# Altium footprint library CN HDR 6POS 3.96MM.PcbLib: 1 footprints
Each footprint in its own frame and in the unit in brackets; x right, y up, seen from the top. Pads: shape width x height; smd on the part's side, far side on the other; paste and mask are expansions set on the pad; w line width, h text height; cw(c..) or ccw(c..) is an arc to the next point about the centre after c.
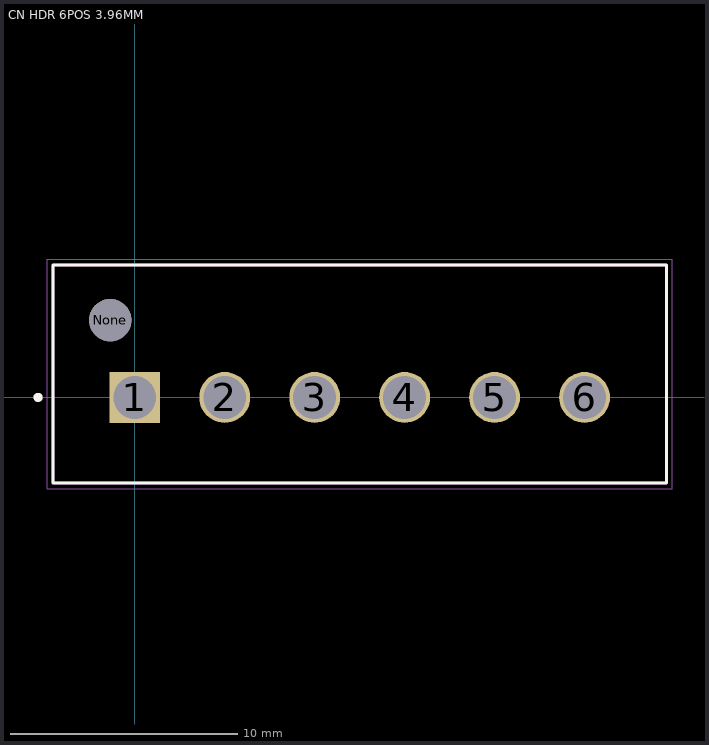
[diagram p0: the footprint, top view; thin cyan lines are the x and y axes]

## CN HDR 6POS 3.96MM [mm]
pads (7):
  rect 2.24x2.24 hole 1.89: 1(0,0)
  round 2.24 hole 1.89: 2(3.96,0) 3(7.92,0) 4(11.88,0) 5(15.84,0) 6(19.8,0)
  round 1.86 hole 1.86 unplated: None(-1.08,3.4)
Top Overlay:
  circle w0.2: c-4.255,0 r0.1
  lines w0.127: -3.605,-3.76 -3.605,5.82 23.405,5.82 23.405,-3.76 -3.605,-3.76
Mechanical 4:
  circle w0.2: c-4.255,0 r0.1
  circle w0.2: c-4.255,0 r0.1
  lines w0.127: -3.605,-3.76 -3.605,5.82 ; -3.605,-3.76 23.405,-3.76 ; -3.605,-3.76 -3.605,5.82 ; -3.605,-3.76 -3.605,5.82 ; -3.605,-3.76 23.405,-3.76 ; -3.605,-3.76 -3.605,5.82 ; -3.605,5.82 23.405,5.82 ; -3.605,5.82 23.405,5.82 ; -3.605,5.82 23.405,5.82 ; -3.605,5.82 23.405,5.82 ; 23.405,-3.76 23.405,5.82 ; 23.405,-3.76 23.405,5.82 ; 23.405,-3.76 23.405,5.82 ; 23.405,-3.76 23.405,5.82
Mechanical 15:
  lines w0.05: -3.855,-4.01 -3.855,6.07 23.655,6.07 23.655,-4.01 -3.855,-4.01